# Altium schematic symbol library BZX84C3V3-7-F.SchLib: 1 symbol
Pins are listed as number, name and electrical type; pins without a type are passive.

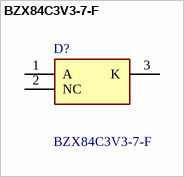
[diagram p0: symbol BZX84C3V3-7-F]

## BZX84C3V3-7-F
designator D?
Zener Diodes 300mW 3.3V Zener AEC-Q101 Qualified; Manufacturer_Name: Diodes Inc.; Geometry.Height: 1.2mm; Mouser Part Number: 621-BZX84C3V3-F; Mouser Price/Stock: https://www.mouser.co.uk/ProductDetail/Diodes-Incorporated/BZX84C3V3-7-F?qs=mdgdZEim3xD%252BgHGo8QKO%2Fg%3D%3D; Manufacturer_Part_Number: BZX84C3V3-7-F; Datasheet Link: https://datasheet.datasheetarchive.com/originals/dk/DKDS-29/577741.pdf
footprint SOT96P240X120-3N
pins: 1 A, 2 NC, 3 K